# Altium schematic symbol library ILI9341.SchLib: 1 symbol
Pins are listed as number, name and electrical type; pins without a type are passive.

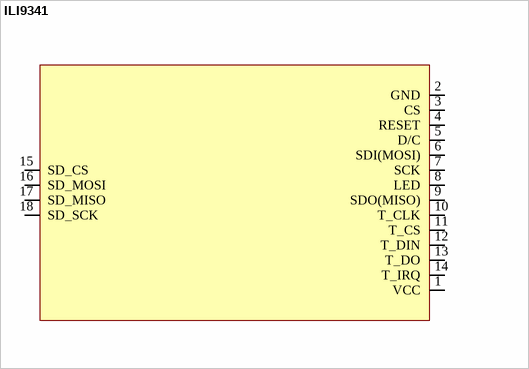
[diagram p0: symbol ILI9341]

## ILI9341
designator S?
3.2" 240x320 TFT LCD ILI9341; GRAMS Lib Spec: 3.2; Magnetic Material: UNKNOWN; Cryo: UNKNOWN; Solder Paste Type: UNKNOWN; Stencil Thickness (Recommended): UNKNOWN
pins: 1 VCC, 2 GND, 3 CS, 4 RESET, 5 D/C, 6 SDI(MOSI), 7 SCK, 8 LED, 9 SDO(MISO), 10 T_CLK, 11 T_CS, 12 T_DIN, 13 T_DO, 14 T_IRQ, 15 SD_CS, 16 SD_MOSI, 17 SD_MISO, 18 SD_SCK